# Altium schematic symbol library TVS Diode Bi 5V.SchLib: 1 symbol
Pins are listed as number, name and electrical type; pins without a type are passive.

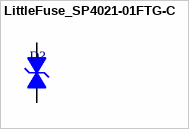
[diagram p0: symbol LittleFuse_SP4021-01FTG-C]

## LittleFuse_SP4021-01FTG-C
designator D?  (value not drawn)
TVS DIODE 5VWM 19.6VC BI SOD323; Supplier 1: Digi-Key; Supplier Part Number 1: F6273CT-ND
footprint TVS Diode SOD-323
pins: 1, 2